# EAGLE library part MC9S08SH4-16 (library Freescale)
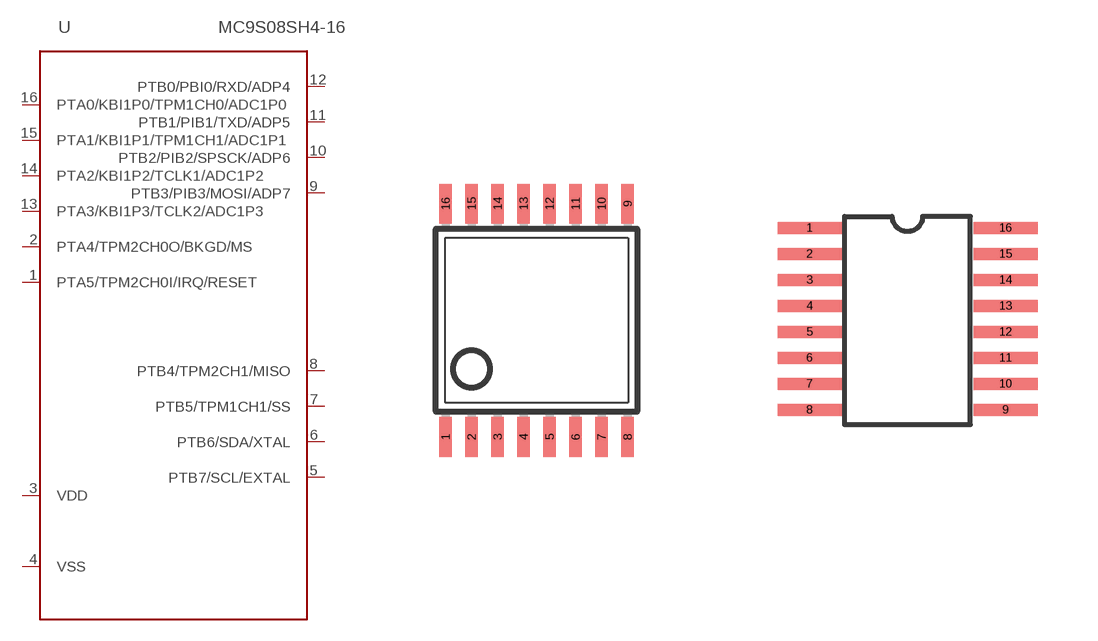
[diagram p7: symbol with the pads of TSSOP16; footprints TSSOP16, TSSOP-16]

Designator prefix -

## MC9S08SH4-16TG  [TSSOP16]
1  PTA5/TPM2CH0I/IRQ/RESET
2  PTA4/TPM2CH0O/BKGD/MS
3  VDD
4  VSS
5  PTB7/SCL/EXTAL
6  PTB6/SDA/XTAL
7  PTB5/TPM1CH1/SS
8  PTB4/TPM2CH1/MISO
9  PTB3/PIB3/MOSI/ADP7
10  PTB2/PIB2/SPSCK/ADP6
11  PTB1/PIB1/TXD/ADP5
12  PTB0/PBI0/RXD/ADP4
13  PTA3/KBI1P3/TCLK2/ADC1P3
14  PTA2/KBI1P2/TCLK1/ADC1P2
15  PTA1/KBI1P1/TPM1CH1/ADC1P1
16  PTA0/KBI1P0/TPM1CH0/ADC1P0

## MC9S08SH4-16TG2  [TSSOP-16]
Pads as for TSSOP16

## Footprint TSSOP16 (pad centres in mm)
Thin Shrink Small Outline Plastic 16 MAX3223-MAX3243.pdf
smd 0.305 x 0.991: 1 -2.275,-2.918; 2 -1.625,-2.918; 3 -0.975,-2.918; 4 -0.325,-2.918; 5 0.325,-2.918; 6 0.975,-2.918; 7 1.625,-2.918; 8 2.275,-2.918; 9 2.275,2.918; 10 1.625,2.918; 11 0.975,2.918; 12 0.325,2.918; 13 -0.325,2.918; 14 -0.975,2.918; 15 -1.625,2.918; 16 -2.275,2.918

## Footprint TSSOP-16 (pad centres in mm)
smd 1.6 x 0.3: 1 -2.449,2.25; 2 -2.449,1.6; 3 -2.449,0.95; 4 -2.449,0.3; 5 -2.449,-0.35; 6 -2.449,-1; 7 -2.449,-1.65; 8 -2.449,-2.3; 9 2.451,-2.3; 10 2.451,-1.65; 11 2.451,-1; 12 2.451,-0.35; 13 2.451,0.3; 14 2.451,0.95; 15 2.451,1.6; 16 2.451,2.25